# Altium schematic symbol library MCP96L01T.SchLib: 1 symbol
Pins are listed as number, name and electrical type; pins without a type are passive.

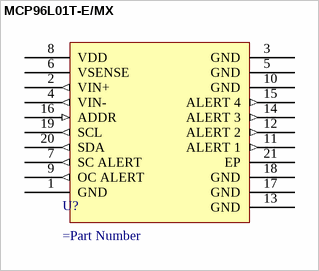
[diagram p0: symbol MCP96L01T-E/MX]

## MCP96L01T-E/MX
designator U?
pins: 1 GND (power), 2 VIN+ (out), 3 GND (power), 4 VIN- (out), 5 GND (power), 6 VSENSE, 7 SC ALERT (out), 8 VDD (power), 9 OC ALERT (out), 10 GND (power), 11 ALERT 1 (out), 12 ALERT 2 (out), 13 GND (power), 14 ALERT 3 (out), 15 ALERT 4 (out), 16 ADDR (in), 17 GND (power), 18 GND (power), 19 SCL (out), 20 SDA (out), 21 EP